# Altium schematic symbol library Converter_DCDC.SchLib: 947 symbols (part 8 of 12)
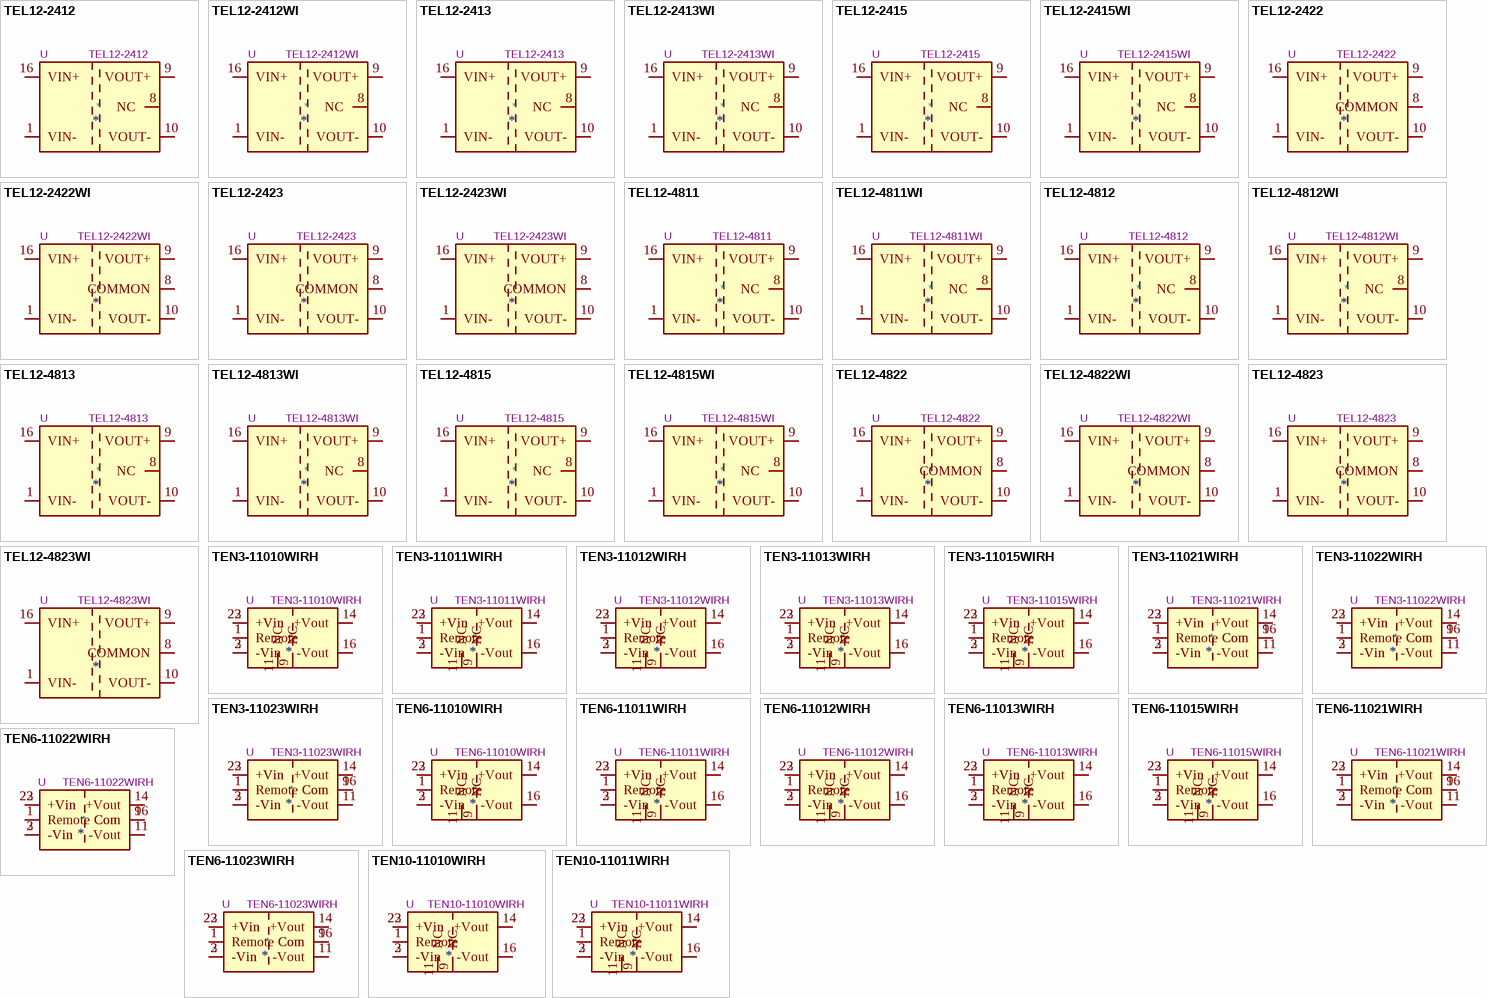
[diagram p30: symbols TEL12-2412 to TEN10-11011WIRH]

## TEL12-2423
designator *  value TEL12-2423  Reference: U
0.4A Isolated DC/DC Converter Module, fixed ±15V Output Voltage, 18-36V Input Voltage, 12W; ki_keywords: Traco isolated DC/DC Converter module; ki_fp_filters: *TRACO*TEL12*xxxx*; Footprint: Converter_DCDC:Converter_DCDC_TRACO_TEL12-xxxx_THT; Datasheet: https://www.tracopower.com/sites/default/files/products/datasheets/tel12_datasheet.pdf; Description_: 0.4A Isolated DC/DC Converter Module, fixed ±15V Output Voltage, 18-36V Input Voltage, 12W
pins: 1 VIN-, 8 COMMON, 9 VOUT+, 10 VOUT-, 16 VIN+

## TEL12-2423WI
designator *  value TEL12-2423WI  Reference: U
0.4A Isolated DC/DC Converter Module, fixed ±15V Output Voltage, 9-36V Input Voltage, 12W; ki_keywords: Traco isolated DC/DC Converter module; ki_fp_filters: *TRACO*TEL12*xxxx*; Footprint: Converter_DCDC:Converter_DCDC_TRACO_TEL12-xxxx_THT; Datasheet: https://www.tracopower.com/sites/default/files/products/datasheets/tel12wi_datasheet.pdf; Description_: 0.4A Isolated DC/DC Converter Module, fixed ±15V Output Voltage, 9-36V Input Voltage, 12W
pins: 1 VIN-, 8 COMMON, 9 VOUT+, 10 VOUT-, 16 VIN+

## TEL12-4811
designator *  value TEL12-4811  Reference: U
2.4A Isolated DC/DC Converter Module, fixed 5.1V Output Voltage, 36-75V Input Voltage, 12W; ki_keywords: Traco isolated DC/DC Converter module; ki_fp_filters: *TRACO*TEL12*xxxx*; Footprint: Converter_DCDC:Converter_DCDC_TRACO_TEL12-xxxx_THT; Datasheet: https://www.tracopower.com/sites/default/files/products/datasheets/tel12_datasheet.pdf; Description_: 2.4A Isolated DC/DC Converter Module, fixed 5.1V Output Voltage, 36-75V Input Voltage, 12W
pins: 1 VIN-, 8 NC, 9 VOUT+, 10 VOUT-, 16 VIN+

## TEL12-4811WI
designator *  value TEL12-4811WI  Reference: U
2.4A Isolated DC/DC Converter Module, fixed 5.1V Output Voltage, 18-75V Input Voltage, 12W; ki_keywords: Traco isolated DC/DC Converter module; ki_fp_filters: *TRACO*TEL12*xxxx*; Footprint: Converter_DCDC:Converter_DCDC_TRACO_TEL12-xxxx_THT; Datasheet: https://www.tracopower.com/sites/default/files/products/datasheets/tel12wi_datasheet.pdf; Description_: 2.4A Isolated DC/DC Converter Module, fixed 5.1V Output Voltage, 18-75V Input Voltage, 12W
pins: 1 VIN-, 8 NC, 9 VOUT+, 10 VOUT-, 16 VIN+

## TEL12-4812
designator *  value TEL12-4812  Reference: U
1A Isolated DC/DC Converter Module, fixed 12V Output Voltage, 36-75V Input Voltage, 12W; ki_keywords: Traco isolated DC/DC Converter module; ki_fp_filters: *TRACO*TEL12*xxxx*; Footprint: Converter_DCDC:Converter_DCDC_TRACO_TEL12-xxxx_THT; Datasheet: https://www.tracopower.com/sites/default/files/products/datasheets/tel12_datasheet.pdf; Description_: 1A Isolated DC/DC Converter Module, fixed 12V Output Voltage, 36-75V Input Voltage, 12W
pins: 1 VIN-, 8 NC, 9 VOUT+, 10 VOUT-, 16 VIN+

## TEL12-4812WI
designator *  value TEL12-4812WI  Reference: U
1A Isolated DC/DC Converter Module, fixed 12V Output Voltage, 18-75V Input Voltage, 12W; ki_keywords: Traco isolated DC/DC Converter module; ki_fp_filters: *TRACO*TEL12*xxxx*; Footprint: Converter_DCDC:Converter_DCDC_TRACO_TEL12-xxxx_THT; Datasheet: https://www.tracopower.com/sites/default/files/products/datasheets/tel12wi_datasheet.pdf; Description_: 1A Isolated DC/DC Converter Module, fixed 12V Output Voltage, 18-75V Input Voltage, 12W
pins: 1 VIN-, 8 NC, 9 VOUT+, 10 VOUT-, 16 VIN+

## TEL12-4813
designator *  value TEL12-4813  Reference: U
0.8A Isolated DC/DC Converter Module, fixed 15V Output Voltage, 36-75V Input Voltage, 12W; ki_keywords: Traco isolated DC/DC Converter module; ki_fp_filters: *TRACO*TEL12*xxxx*; Footprint: Converter_DCDC:Converter_DCDC_TRACO_TEL12-xxxx_THT; Datasheet: https://www.tracopower.com/sites/default/files/products/datasheets/tel12_datasheet.pdf; Description_: 0.8A Isolated DC/DC Converter Module, fixed 15V Output Voltage, 36-75V Input Voltage, 12W
pins: 1 VIN-, 8 NC, 9 VOUT+, 10 VOUT-, 16 VIN+

## TEL12-4813WI
designator *  value TEL12-4813WI  Reference: U
0.8A Isolated DC/DC Converter Module, fixed 15V Output Voltage, 18-75V Input Voltage, 12W; ki_keywords: Traco isolated DC/DC Converter module; ki_fp_filters: *TRACO*TEL12*xxxx*; Footprint: Converter_DCDC:Converter_DCDC_TRACO_TEL12-xxxx_THT; Datasheet: https://www.tracopower.com/sites/default/files/products/datasheets/tel12wi_datasheet.pdf; Description_: 0.8A Isolated DC/DC Converter Module, fixed 15V Output Voltage, 18-75V Input Voltage, 12W
pins: 1 VIN-, 8 NC, 9 VOUT+, 10 VOUT-, 16 VIN+

## TEL12-4815
designator *  value TEL12-4815  Reference: U
0.5A Isolated DC/DC Converter Module, fixed 24V Output Voltage, 36-75V Input Voltage, 12W; ki_keywords: Traco isolated DC/DC Converter module; ki_fp_filters: *TRACO*TEL12*xxxx*; Footprint: Converter_DCDC:Converter_DCDC_TRACO_TEL12-xxxx_THT; Datasheet: https://www.tracopower.com/sites/default/files/products/datasheets/tel12_datasheet.pdf; Description_: 0.5A Isolated DC/DC Converter Module, fixed 24V Output Voltage, 36-75V Input Voltage, 12W
pins: 1 VIN-, 8 NC, 9 VOUT+, 10 VOUT-, 16 VIN+

## TEL12-4815WI
designator *  value TEL12-4815WI  Reference: U
0.5A Isolated DC/DC Converter Module, fixed 24V Output Voltage, 18-75V Input Voltage, 12W; ki_keywords: Traco isolated DC/DC Converter module; ki_fp_filters: *TRACO*TEL12*xxxx*; Footprint: Converter_DCDC:Converter_DCDC_TRACO_TEL12-xxxx_THT; Datasheet: https://www.tracopower.com/sites/default/files/products/datasheets/tel12wi_datasheet.pdf; Description_: 0.5A Isolated DC/DC Converter Module, fixed 24V Output Voltage, 18-75V Input Voltage, 12W
pins: 1 VIN-, 8 NC, 9 VOUT+, 10 VOUT-, 16 VIN+

## TEL12-4822
designator *  value TEL12-4822  Reference: U
0.5A Isolated DC/DC Converter Module, fixed ±12V Output Voltage, 36-75V Input Voltage, 12W; ki_keywords: Traco isolated DC/DC Converter module; ki_fp_filters: *TRACO*TEL12*xxxx*; Footprint: Converter_DCDC:Converter_DCDC_TRACO_TEL12-xxxx_THT; Datasheet: https://www.tracopower.com/sites/default/files/products/datasheets/tel12_datasheet.pdf; Description_: 0.5A Isolated DC/DC Converter Module, fixed ±12V Output Voltage, 36-75V Input Voltage, 12W
pins: 1 VIN-, 8 COMMON, 9 VOUT+, 10 VOUT-, 16 VIN+

## TEL12-4822WI
designator *  value TEL12-4822WI  Reference: U
0.5A Isolated DC/DC Converter Module, fixed ±12V Output Voltage, 18-75V Input Voltage, 12W; ki_keywords: Traco isolated DC/DC Converter module; ki_fp_filters: *TRACO*TEL12*xxxx*; Footprint: Converter_DCDC:Converter_DCDC_TRACO_TEL12-xxxx_THT; Datasheet: https://www.tracopower.com/sites/default/files/products/datasheets/tel12wi_datasheet.pdf; Description_: 0.5A Isolated DC/DC Converter Module, fixed ±12V Output Voltage, 18-75V Input Voltage, 12W
pins: 1 VIN-, 8 COMMON, 9 VOUT+, 10 VOUT-, 16 VIN+

## TEL12-4823
designator *  value TEL12-4823  Reference: U
0.4A Isolated DC/DC Converter Module, fixed ±15V Output Voltage, 36-75V Input Voltage, 12W; ki_keywords: Traco isolated DC/DC Converter module; ki_fp_filters: *TRACO*TEL12*xxxx*; Footprint: Converter_DCDC:Converter_DCDC_TRACO_TEL12-xxxx_THT; Datasheet: https://www.tracopower.com/sites/default/files/products/datasheets/tel12_datasheet.pdf; Description_: 0.4A Isolated DC/DC Converter Module, fixed ±15V Output Voltage, 36-75V Input Voltage, 12W
pins: 1 VIN-, 8 COMMON, 9 VOUT+, 10 VOUT-, 16 VIN+

## TEL12-4823WI
designator *  value TEL12-4823WI  Reference: U
0.4A Isolated DC/DC Converter Module, fixed ±15V Output Voltage, 18-75V Input Voltage, 12W; ki_keywords: Traco isolated DC/DC Converter module; ki_fp_filters: *TRACO*TEL12*xxxx*; Footprint: Converter_DCDC:Converter_DCDC_TRACO_TEL12-xxxx_THT; Datasheet: https://www.tracopower.com/sites/default/files/products/datasheets/tel12wi_datasheet.pdf; Description_: 0.4A Isolated DC/DC Converter Module, fixed ±15V Output Voltage, 18-75V Input Voltage, 12W
pins: 1 VIN-, 8 COMMON, 9 VOUT+, 10 VOUT-, 16 VIN+

## TEN3-11010WIRH
designator *  value TEN3-11010WIRH  Reference: U
3W DC/DC railway converter regulated, 36-160V input, 3.3V fixed output voltage, 1A output, 3.0kVAC isolation, DIP-24; ki_keywords: Traco isolated single; ki_fp_filters: Converter*DCDC*TRACO*TEN10*110xxWIRH*THT*; Footprint: Converter_DCDC:Converter_DCDC_TRACO_TEN10-110xxWIRH_THT; Datasheet: https://www.tracopower.com/products/ten3wirh.pdf; Description_: 3W DC/DC railway converter regulated, 36-160V input, 3.3V fixed output voltage, 1A output, 3.0kVAC isolation, DIP-24
pins: 1 Remote, 2 -Vin, 3 -Vin, 9 NC, 11 NC, 14 +Vout, 16 -Vout, 22 +Vin, 23 +Vin

## TEN3-11011WIRH
designator *  value TEN3-11011WIRH  Reference: U
3W DC/DC railway converter regulated, 36-160V input, 5V fixed output voltage, 600mA output, 3.0kVAC isolation, DIP-24; ki_keywords: Traco isolated single; ki_fp_filters: Converter*DCDC*TRACO*TEN10*110xxWIRH*THT*; Footprint: Converter_DCDC:Converter_DCDC_TRACO_TEN10-110xxWIRH_THT; Datasheet: https://www.tracopower.com/products/ten3wirh.pdf; Description_: 3W DC/DC railway converter regulated, 36-160V input, 5V fixed output voltage, 600mA output, 3.0kVAC isolation, DIP-24
pins: 1 Remote, 2 -Vin, 3 -Vin, 9 NC, 11 NC, 14 +Vout, 16 -Vout, 22 +Vin, 23 +Vin

## TEN3-11012WIRH
designator *  value TEN3-11012WIRH  Reference: U
3W DC/DC railway converter regulated, 36-160V input, 12V fixed output voltage, 250mA output, 3.0kVAC isolation, DIP-24; ki_keywords: Traco isolated single; ki_fp_filters: Converter*DCDC*TRACO*TEN10*110xxWIRH*THT*; Footprint: Converter_DCDC:Converter_DCDC_TRACO_TEN10-110xxWIRH_THT; Datasheet: https://www.tracopower.com/products/ten3wirh.pdf; Description_: 3W DC/DC railway converter regulated, 36-160V input, 12V fixed output voltage, 250mA output, 3.0kVAC isolation, DIP-24
pins: 1 Remote, 2 -Vin, 3 -Vin, 9 NC, 11 NC, 14 +Vout, 16 -Vout, 22 +Vin, 23 +Vin

## TEN3-11013WIRH
designator *  value TEN3-11013WIRH  Reference: U
3W DC/DC railway converter regulated, 36-160V input, 15V fixed output voltage, 200mA output, 3.0kVAC isolation, DIP-24; ki_keywords: Traco isolated single; ki_fp_filters: Converter*DCDC*TRACO*TEN10*110xxWIRH*THT*; Footprint: Converter_DCDC:Converter_DCDC_TRACO_TEN10-110xxWIRH_THT; Datasheet: https://www.tracopower.com/products/ten3wirh.pdf; Description_: 3W DC/DC railway converter regulated, 36-160V input, 15V fixed output voltage, 200mA output, 3.0kVAC isolation, DIP-24
pins: 1 Remote, 2 -Vin, 3 -Vin, 9 NC, 11 NC, 14 +Vout, 16 -Vout, 22 +Vin, 23 +Vin

## TEN3-11015WIRH
designator *  value TEN3-11015WIRH  Reference: U
3W DC/DC railway converter regulated, 36-160V input, 24V fixed output voltage, 125mA output, 3.0kVAC isolation, DIP-24; ki_keywords: Traco isolated single; ki_fp_filters: Converter*DCDC*TRACO*TEN10*110xxWIRH*THT*; Footprint: Converter_DCDC:Converter_DCDC_TRACO_TEN10-110xxWIRH_THT; Datasheet: https://www.tracopower.com/products/ten3wirh.pdf; Description_: 3W DC/DC railway converter regulated, 36-160V input, 24V fixed output voltage, 125mA output, 3.0kVAC isolation, DIP-24
pins: 1 Remote, 2 -Vin, 3 -Vin, 9 NC, 11 NC, 14 +Vout, 16 -Vout, 22 +Vin, 23 +Vin

## TEN3-11021WIRH
designator *  value TEN3-11021WIRH  Reference: U
3W DC/DC railway converter regulated, 36-160V input, ±5V fixed output voltage, 300mA each output, 3.0kVAC isolation, DIP-24; ki_keywords: Traco isolated dual; ki_fp_filters: Converter*DCDC*TRACO*TEN10*110xxWIRH*THT*; Footprint: Converter_DCDC:Converter_DCDC_TRACO_TEN10-110xxWIRH_THT; Datasheet: https://www.tracopower.com/products/ten3wirh.pdf; Description_: 3W DC/DC railway converter regulated, 36-160V input, ±5V fixed output voltage, 300mA each output, 3.0kVAC isolation, DIP-24
pins: 1 Remote, 2 -Vin, 3 -Vin, 9 Com, 11 -Vout, 14 +Vout, 16 Com, 22 +Vin, 23 +Vin

## TEN3-11022WIRH
designator *  value TEN3-11022WIRH  Reference: U
3W DC/DC railway converter regulated, 36-160V input, ±12V fixed output voltage, 125mA each output, 3.0kVAC isolation, DIP-24; ki_keywords: Traco isolated dual; ki_fp_filters: Converter*DCDC*TRACO*TEN10*110xxWIRH*THT*; Footprint: Converter_DCDC:Converter_DCDC_TRACO_TEN10-110xxWIRH_THT; Datasheet: https://www.tracopower.com/products/ten3wirh.pdf; Description_: 3W DC/DC railway converter regulated, 36-160V input, ±12V fixed output voltage, 125mA each output, 3.0kVAC isolation, DIP-24
pins: 1 Remote, 2 -Vin, 3 -Vin, 9 Com, 11 -Vout, 14 +Vout, 16 Com, 22 +Vin, 23 +Vin

## TEN3-11023WIRH
designator *  value TEN3-11023WIRH  Reference: U
3W DC/DC railway converter regulated, 36-160V input, ±15V fixed output voltage, 100mA each output, 3.0kVAC isolation, DIP-24; ki_keywords: Traco isolated dual; ki_fp_filters: Converter*DCDC*TRACO*TEN10*110xxWIRH*THT*; Footprint: Converter_DCDC:Converter_DCDC_TRACO_TEN10-110xxWIRH_THT; Datasheet: https://www.tracopower.com/products/ten3wirh.pdf; Description_: 3W DC/DC railway converter regulated, 36-160V input, ±15V fixed output voltage, 100mA each output, 3.0kVAC isolation, DIP-24
pins: 1 Remote, 2 -Vin, 3 -Vin, 9 Com, 11 -Vout, 14 +Vout, 16 Com, 22 +Vin, 23 +Vin

## TEN6-11010WIRH
designator *  value TEN6-11010WIRH  Reference: U
6W DC/DC railway converter regulated, 36-160V input, 3.3V fixed output voltage, 1.8A output, 3.0kVAC isolation, DIP-24; ki_keywords: Traco isolated single; ki_fp_filters: Converter*DCDC*TRACO*TEN10*110xxWIRH*THT*; Footprint: Converter_DCDC:Converter_DCDC_TRACO_TEN10-110xxWIRH_THT; Datasheet: https://www.tracopower.com/products/ten6wirh.pdf; Description_: 6W DC/DC railway converter regulated, 36-160V input, 3.3V fixed output voltage, 1.8A output, 3.0kVAC isolation, DIP-24
pins: 1 Remote, 2 -Vin, 3 -Vin, 9 NC, 11 NC, 14 +Vout, 16 -Vout, 22 +Vin, 23 +Vin

## TEN6-11011WIRH
designator *  value TEN6-11011WIRH  Reference: U
6W DC/DC railway converter regulated, 36-160V input, 5V fixed output voltage, 1.2A output, 3.0kVAC isolation, DIP-24; ki_keywords: Traco isolated single; ki_fp_filters: Converter*DCDC*TRACO*TEN10*110xxWIRH*THT*; Footprint: Converter_DCDC:Converter_DCDC_TRACO_TEN10-110xxWIRH_THT; Datasheet: https://www.tracopower.com/products/ten6wirh.pdf; Description_: 6W DC/DC railway converter regulated, 36-160V input, 5V fixed output voltage, 1.2A output, 3.0kVAC isolation, DIP-24
pins: 1 Remote, 2 -Vin, 3 -Vin, 9 NC, 11 NC, 14 +Vout, 16 -Vout, 22 +Vin, 23 +Vin

## TEN6-11012WIRH
designator *  value TEN6-11012WIRH  Reference: U
6W DC/DC railway converter regulated, 36-160V input, 12V fixed output voltage, 500mA output, 3.0kVAC isolation, DIP-24; ki_keywords: Traco isolated single; ki_fp_filters: Converter*DCDC*TRACO*TEN10*110xxWIRH*THT*; Footprint: Converter_DCDC:Converter_DCDC_TRACO_TEN10-110xxWIRH_THT; Datasheet: https://www.tracopower.com/products/ten6wirh.pdf; Description_: 6W DC/DC railway converter regulated, 36-160V input, 12V fixed output voltage, 500mA output, 3.0kVAC isolation, DIP-24
pins: 1 Remote, 2 -Vin, 3 -Vin, 9 NC, 11 NC, 14 +Vout, 16 -Vout, 22 +Vin, 23 +Vin

## TEN6-11013WIRH
designator *  value TEN6-11013WIRH  Reference: U
6W DC/DC railway converter regulated, 36-160V input, 15V fixed output voltage, 400mA output, 3.0kVAC isolation, DIP-24; ki_keywords: Traco isolated single; ki_fp_filters: Converter*DCDC*TRACO*TEN10*110xxWIRH*THT*; Footprint: Converter_DCDC:Converter_DCDC_TRACO_TEN10-110xxWIRH_THT; Datasheet: https://www.tracopower.com/products/ten6wirh.pdf; Description_: 6W DC/DC railway converter regulated, 36-160V input, 15V fixed output voltage, 400mA output, 3.0kVAC isolation, DIP-24
pins: 1 Remote, 2 -Vin, 3 -Vin, 9 NC, 11 NC, 14 +Vout, 16 -Vout, 22 +Vin, 23 +Vin

## TEN6-11015WIRH
designator *  value TEN6-11015WIRH  Reference: U
6W DC/DC railway converter regulated, 36-160V input, 24V fixed output voltage, 250mA output, 3.0kVAC isolation, DIP-24; ki_keywords: Traco isolated single; ki_fp_filters: Converter*DCDC*TRACO*TEN10*110xxWIRH*THT*; Footprint: Converter_DCDC:Converter_DCDC_TRACO_TEN10-110xxWIRH_THT; Datasheet: https://www.tracopower.com/products/ten6wirh.pdf; Description_: 6W DC/DC railway converter regulated, 36-160V input, 24V fixed output voltage, 250mA output, 3.0kVAC isolation, DIP-24
pins: 1 Remote, 2 -Vin, 3 -Vin, 9 NC, 11 NC, 14 +Vout, 16 -Vout, 22 +Vin, 23 +Vin

## TEN6-11021WIRH
designator *  value TEN6-11021WIRH  Reference: U
6W DC/DC railway converter regulated, 36-160V input, ±5V fixed output voltage, 600mA each output, 3.0kVAC isolation, DIP-24; ki_keywords: Traco isolated dual; ki_fp_filters: Converter*DCDC*TRACO*TEN10*110xxWIRH*THT*; Footprint: Converter_DCDC:Converter_DCDC_TRACO_TEN10-110xxWIRH_THT; Datasheet: https://www.tracopower.com/products/ten6wirh.pdf; Description_: 6W DC/DC railway converter regulated, 36-160V input, ±5V fixed output voltage, 600mA each output, 3.0kVAC isolation, DIP-24
pins: 1 Remote, 2 -Vin, 3 -Vin, 9 Com, 11 -Vout, 14 +Vout, 16 Com, 22 +Vin, 23 +Vin

## TEN6-11022WIRH
designator *  value TEN6-11022WIRH  Reference: U
6W DC/DC railway converter regulated, 36-160V input, ±12V fixed output voltage, 250mA each output, 3.0kVAC isolation, DIP-24; ki_keywords: Traco isolated dual; ki_fp_filters: Converter*DCDC*TRACO*TEN10*110xxWIRH*THT*; Footprint: Converter_DCDC:Converter_DCDC_TRACO_TEN10-110xxWIRH_THT; Datasheet: https://www.tracopower.com/products/ten6wirh.pdf; Description_: 6W DC/DC railway converter regulated, 36-160V input, ±12V fixed output voltage, 250mA each output, 3.0kVAC isolation, DIP-24
pins: 1 Remote, 2 -Vin, 3 -Vin, 9 Com, 11 -Vout, 14 +Vout, 16 Com, 22 +Vin, 23 +Vin

## TEN6-11023WIRH
designator *  value TEN6-11023WIRH  Reference: U
6W DC/DC railway converter regulated, 36-160V input, ±15V fixed output voltage, 200mA each output, 3.0kVAC isolation, DIP-24; ki_keywords: Traco isolated dual; ki_fp_filters: Converter*DCDC*TRACO*TEN10*110xxWIRH*THT*; Footprint: Converter_DCDC:Converter_DCDC_TRACO_TEN10-110xxWIRH_THT; Datasheet: https://www.tracopower.com/products/ten6wirh.pdf; Description_: 6W DC/DC railway converter regulated, 36-160V input, ±15V fixed output voltage, 200mA each output, 3.0kVAC isolation, DIP-24
pins: 1 Remote, 2 -Vin, 3 -Vin, 9 Com, 11 -Vout, 14 +Vout, 16 Com, 22 +Vin, 23 +Vin

## TEN10-11010WIRH
designator *  value TEN10-11010WIRH  Reference: U
10W DC/DC railway converter regulated, 36-160V input, 3.3V fixed output voltage, 2.5A output, 3.0kVAC isolation, DIP-24; ki_keywords: Traco isolated single; ki_fp_filters: Converter*DCDC*TRACO*TEN10*110xxWIRH*THT*; Footprint: Converter_DCDC:Converter_DCDC_TRACO_TEN10-110xxWIRH_THT; Datasheet: https://www.tracopower.com/products/ten10wirh.pdf; Description_: 10W DC/DC railway converter regulated, 36-160V input, 3.3V fixed output voltage, 2.5A output, 3.0kVAC isolation, DIP-24
pins: 1 Remote, 2 -Vin, 3 -Vin, 9 NC, 11 NC, 14 +Vout, 16 -Vout, 22 +Vin, 23 +Vin

## TEN10-11011WIRH
designator *  value TEN10-11011WIRH  Reference: U
10W DC/DC railway converter regulated, 36-160V input, 5.1V fixed output voltage, 2A output, 3.0kVAC isolation, DIP-24; ki_keywords: Traco isolated isolation dc-dc DC/DC converter single; ki_fp_filters: Converter*DCDC*TRACO*TEN10*110xxWIRH*THT*; Footprint: Converter_DCDC:Converter_DCDC_TRACO_TEN10-110xxWIRH_THT; Datasheet: https://www.tracopower.com/products/ten10wirh.pdf; Description_: 10W DC/DC railway converter regulated, 36-160V input, 5.1V fixed output voltage, 2A output, 3.0kVAC isolation, DIP-24
pins: 1 Remote, 2 -Vin, 3 -Vin, 9 NC, 11 NC, 14 +Vout, 16 -Vout, 22 +Vin, 23 +Vin

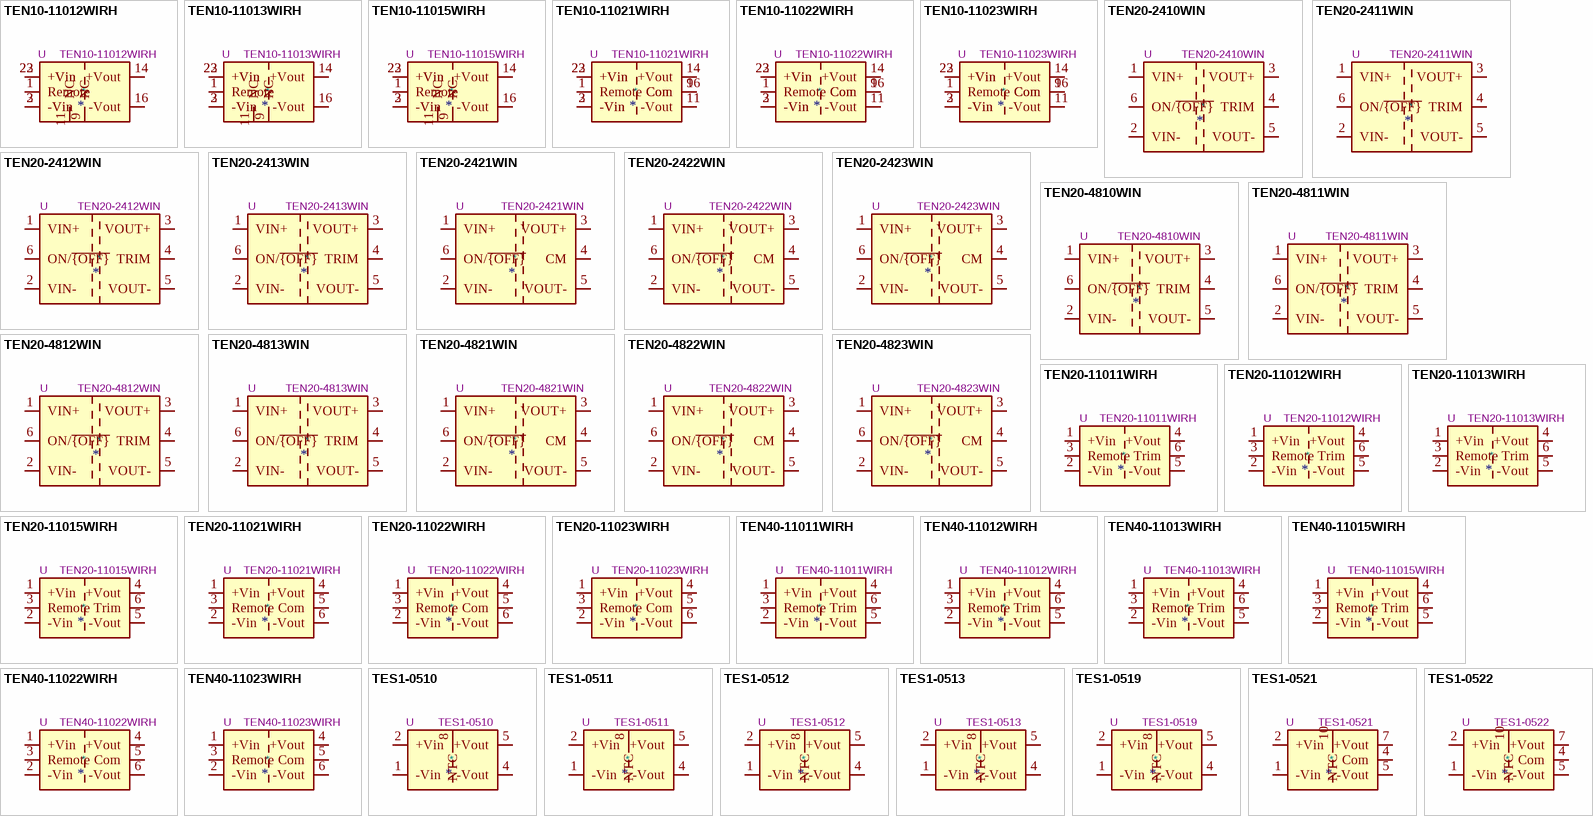
[diagram p16: symbols TEN10-11012WIRH to TES1-0522]

## TEN10-11012WIRH
designator *  value TEN10-11012WIRH  Reference: U
10W DC/DC railway converter regulated, 36-160V input, 12V fixed output voltage, 830mA output, 3.0kVAC isolation, DIP-24; ki_keywords: Traco isolated isolation dc-dc DC/DC converter single; ki_fp_filters: Converter*DCDC*TRACO*TEN10*110xxWIRH*THT*; Footprint: Converter_DCDC:Converter_DCDC_TRACO_TEN10-110xxWIRH_THT; Datasheet: https://www.tracopower.com/products/ten10wirh.pdf; Description_: 10W DC/DC railway converter regulated, 36-160V input, 12V fixed output voltage, 830mA output, 3.0kVAC isolation, DIP-24
pins: 1 Remote, 2 -Vin, 3 -Vin, 9 NC, 11 NC, 14 +Vout, 16 -Vout, 22 +Vin, 23 +Vin

## TEN10-11013WIRH
designator *  value TEN10-11013WIRH  Reference: U
10W DC/DC railway converter regulated, 36-160V input, 15V fixed output voltage, 670mA output, 3.0kVAC isolation, DIP-24; ki_keywords: Traco isolated isolation dc-dc DC/DC converter single; ki_fp_filters: Converter*DCDC*TRACO*TEN10*110xxWIRH*THT*; Footprint: Converter_DCDC:Converter_DCDC_TRACO_TEN10-110xxWIRH_THT; Datasheet: https://www.tracopower.com/products/ten10wirh.pdf; Description_: 10W DC/DC railway converter regulated, 36-160V input, 15V fixed output voltage, 670mA output, 3.0kVAC isolation, DIP-24
pins: 1 Remote, 2 -Vin, 3 -Vin, 9 NC, 11 NC, 14 +Vout, 16 -Vout, 22 +Vin, 23 +Vin

## TEN10-11015WIRH
designator *  value TEN10-11015WIRH  Reference: U
10W DC/DC railway converter regulated, 36-160V input, 24V fixed output voltage, 416mA output, 3.0kVAC isolation, DIP-24; ki_keywords: Traco isolated isolation dc-dc DC/DC converter single; ki_fp_filters: Converter*DCDC*TRACO*TEN10*110xxWIRH*THT*; Footprint: Converter_DCDC:Converter_DCDC_TRACO_TEN10-110xxWIRH_THT; Datasheet: https://www.tracopower.com/products/ten10wirh.pdf; Description_: 10W DC/DC railway converter regulated, 36-160V input, 24V fixed output voltage, 416mA output, 3.0kVAC isolation, DIP-24
pins: 1 Remote, 2 -Vin, 3 -Vin, 9 NC, 11 NC, 14 +Vout, 16 -Vout, 22 +Vin, 23 +Vin

## TEN10-11021WIRH
designator *  value TEN10-11021WIRH  Reference: U
10W DC/DC railway converter regulated, 36-160V input, ±5V fixed output voltage, 1A each output, 3.0kVAC isolation, DIP-24; ki_keywords: Traco isolated dual; ki_fp_filters: Converter*DCDC*TRACO*TEN10*110xxWIRH*THT*; Footprint: Converter_DCDC:Converter_DCDC_TRACO_TEN10-110xxWIRH_THT; Datasheet: https://www.tracopower.com/products/ten10wirh.pdf; Description_: 10W DC/DC railway converter regulated, 36-160V input, ±5V fixed output voltage, 1A each output, 3.0kVAC isolation, DIP-24
pins: 1 Remote, 2 -Vin, 3 -Vin, 9 Com, 11 -Vout, 14 +Vout, 16 Com, 22 +Vin, 23 +Vin

## TEN10-11022WIRH
designator *  value TEN10-11022WIRH  Reference: U
10W DC/DC railway converter regulated, 36-160V input, ±12V fixed output voltage, 416mA each output, 3.0kVAC isolation, DIP-24; ki_keywords: Traco isolated isolation dc-dc DC/DC converter dual; ki_fp_filters: Converter*DCDC*TRACO*TEN10*110xxWIRH*THT*; Footprint: Converter_DCDC:Converter_DCDC_TRACO_TEN10-110xxWIRH_THT; Datasheet: https://www.tracopower.com/products/ten10wirh.pdf; Description_: 10W DC/DC railway converter regulated, 36-160V input, ±12V fixed output voltage, 416mA each output, 3.0kVAC isolation, DIP-24
pins: 1 Remote, 2 -Vin, 3 -Vin, 9 Com, 11 -Vout, 14 +Vout, 16 Com, 22 +Vin, 23 +Vin

## TEN10-11023WIRH
designator *  value TEN10-11023WIRH  Reference: U
10W DC/DC railway converter regulated, 36-160V input, ±15V fixed output voltage, 333mA each output, 3.0kVAC isolation, DIP-24; ki_keywords: Traco isolated isolation dc-dc DC/DC converter dual; ki_fp_filters: Converter*DCDC*TRACO*TEN10*110xxWIRH*THT*; Footprint: Converter_DCDC:Converter_DCDC_TRACO_TEN10-110xxWIRH_THT; Datasheet: https://www.tracopower.com/products/ten10wirh.pdf; Description_: 10W DC/DC railway converter regulated, 36-160V input, ±15V fixed output voltage, 333mA each output, 3.0kVAC isolation, DIP-24
pins: 1 Remote, 2 -Vin, 3 -Vin, 9 Com, 11 -Vout, 14 +Vout, 16 Com, 22 +Vin, 23 +Vin

## TEN20-2410WIN
designator *  value TEN20-2410WIN  Reference: U
5.5A Isolated DC/DC Converter Module, fixed 3.3V Output Voltage, 9-36V Input Voltage; ki_keywords: Traco isolated DC/DC Converter module; ki_fp_filters: *TRACO*TEN20*xxxx*; Footprint: Converter_DCDC:Converter_DCDC_TRACO_TEN20-xxxx_THT; Datasheet: http://www.tracopower.com/products/ten20win.pdf; Description_: 5.5A Isolated DC/DC Converter Module, fixed 3.3V Output Voltage, 9-36V Input Voltage
pins: 1 VIN+, 2 VIN-, 3 VOUT+, 4 TRIM, 5 VOUT-, 6 ON/~{{OFF}}

## TEN20-2411WIN
designator *  value TEN20-2411WIN  Reference: U
4A Isolated DC/DC Converter Module, fixed 5V Output Voltage, 9-36V Input Voltage; ki_keywords: Traco isolated DC/DC Converter module; ki_fp_filters: *TRACO*TEN20*xxxx*; Footprint: Converter_DCDC:Converter_DCDC_TRACO_TEN20-xxxx_THT; Datasheet: http://www.tracopower.com/products/ten20win.pdf; Description_: 4A Isolated DC/DC Converter Module, fixed 5V Output Voltage, 9-36V Input Voltage
pins: 1 VIN+, 2 VIN-, 3 VOUT+, 4 TRIM, 5 VOUT-, 6 ON/~{{OFF}}

## TEN20-2412WIN
designator *  value TEN20-2412WIN  Reference: U
1.67A Isolated DC/DC Converter Module, fixed 12V Output Voltage, 9-36V Input Voltage; ki_keywords: Traco isolated DC/DC Converter module; ki_fp_filters: *TRACO*TEN20*xxxx*; Footprint: Converter_DCDC:Converter_DCDC_TRACO_TEN20-xxxx_THT; Datasheet: http://www.tracopower.com/products/ten20win.pdf; Description_: 1.67A Isolated DC/DC Converter Module, fixed 12V Output Voltage, 9-36V Input Voltage
pins: 1 VIN+, 2 VIN-, 3 VOUT+, 4 TRIM, 5 VOUT-, 6 ON/~{{OFF}}

## TEN20-2413WIN
designator *  value TEN20-2413WIN  Reference: U
1.33A Isolated DC/DC Converter Module, fixed 15V Output Voltage, 9-36V Input Voltage; ki_keywords: Traco isolated DC/DC Converter module; ki_fp_filters: *TRACO*TEN20*xxxx*; Footprint: Converter_DCDC:Converter_DCDC_TRACO_TEN20-xxxx_THT; Datasheet: http://www.tracopower.com/products/ten20win.pdf; Description_: 1.33A Isolated DC/DC Converter Module, fixed 15V Output Voltage, 9-36V Input Voltage
pins: 1 VIN+, 2 VIN-, 3 VOUT+, 4 TRIM, 5 VOUT-, 6 ON/~{{OFF}}

## TEN20-2421WIN
designator *  value TEN20-2421WIN  Reference: U
2A Isolated DC/DC Dual Supply Converter Module, fixed ±5V Output Voltage, 9-36V Input Voltage; ki_keywords: Traco isolated DC/DC Converter module; ki_fp_filters: *TRACO*TEN20*xxxx*; Footprint: Converter_DCDC:Converter_DCDC_TRACO_TEN20-xxxx_THT; Datasheet: http://www.tracopower.com/products/ten20win.pdf; Description_: 2A Isolated DC/DC Dual Supply Converter Module, fixed ±5V Output Voltage, 9-36V Input Voltage
pins: 1 VIN+, 2 VIN-, 3 VOUT+, 4 CM, 5 VOUT-, 6 ON/~{{OFF}}

## TEN20-2422WIN
designator *  value TEN20-2422WIN  Reference: U
835mA Isolated DC/DC Dual Supply Converter Module, fixed ±12V Output Voltage, 9-36V Input Voltage; ki_keywords: Traco isolated DC/DC Converter module; ki_fp_filters: *TRACO*TEN20*xxxx*; Footprint: Converter_DCDC:Converter_DCDC_TRACO_TEN20-xxxx_THT; Datasheet: http://www.tracopower.com/products/ten20win.pdf; Description_: 835mA Isolated DC/DC Dual Supply Converter Module, fixed ±12V Output Voltage, 9-36V Input Voltage
pins: 1 VIN+, 2 VIN-, 3 VOUT+, 4 CM, 5 VOUT-, 6 ON/~{{OFF}}

## TEN20-2423WIN
designator *  value TEN20-2423WIN  Reference: U
665mA Isolated DC/DC Dual Supply Converter Module, fixed ±15V Output Voltage, 9-36V Input Voltage; ki_keywords: Traco isolated DC/DC Converter module; ki_fp_filters: *TRACO*TEN20*xxxx*; Footprint: Converter_DCDC:Converter_DCDC_TRACO_TEN20-xxxx_THT; Datasheet: http://www.tracopower.com/products/ten20win.pdf; Description_: 665mA Isolated DC/DC Dual Supply Converter Module, fixed ±15V Output Voltage, 9-36V Input Voltage
pins: 1 VIN+, 2 VIN-, 3 VOUT+, 4 CM, 5 VOUT-, 6 ON/~{{OFF}}

## TEN20-4810WIN
designator *  value TEN20-4810WIN  Reference: U
5.5A Isolated DC/DC Converter Module, fixed 3.3V Output Voltage, 18-75V Input Voltage; ki_keywords: Traco isolated DC/DC Converter module; ki_fp_filters: *TRACO*TEN20*xxxx*; Footprint: Converter_DCDC:Converter_DCDC_TRACO_TEN20-xxxx_THT; Datasheet: http://www.tracopower.com/products/ten20win.pdf; Description_: 5.5A Isolated DC/DC Converter Module, fixed 3.3V Output Voltage, 18-75V Input Voltage
pins: 1 VIN+, 2 VIN-, 3 VOUT+, 4 TRIM, 5 VOUT-, 6 ON/~{{OFF}}

## TEN20-4811WIN
designator *  value TEN20-4811WIN  Reference: U
4A Isolated DC/DC Converter Module, fixed 5V Output Voltage, 18-75V Input Voltage; ki_keywords: Traco isolated DC/DC Converter module; ki_fp_filters: *TRACO*TEN20*xxxx*; Footprint: Converter_DCDC:Converter_DCDC_TRACO_TEN20-xxxx_THT; Datasheet: http://www.tracopower.com/products/ten20win.pdf; Description_: 4A Isolated DC/DC Converter Module, fixed 5V Output Voltage, 18-75V Input Voltage
pins: 1 VIN+, 2 VIN-, 3 VOUT+, 4 TRIM, 5 VOUT-, 6 ON/~{{OFF}}

## TEN20-4812WIN
designator *  value TEN20-4812WIN  Reference: U
1.67A Isolated DC/DC Converter Module, fixed 12V Output Voltage, 18-75V Input Voltage; ki_keywords: Traco isolated DC/DC Converter module; ki_fp_filters: *TRACO*TEN20*xxxx*; Footprint: Converter_DCDC:Converter_DCDC_TRACO_TEN20-xxxx_THT; Datasheet: http://www.tracopower.com/products/ten20win.pdf; Description_: 1.67A Isolated DC/DC Converter Module, fixed 12V Output Voltage, 18-75V Input Voltage
pins: 1 VIN+, 2 VIN-, 3 VOUT+, 4 TRIM, 5 VOUT-, 6 ON/~{{OFF}}

## TEN20-4813WIN
designator *  value TEN20-4813WIN  Reference: U
1.33A Isolated DC/DC Converter Module, fixed 15V Output Voltage, 18-75V Input Voltage; ki_keywords: Traco isolated DC/DC Converter module; ki_fp_filters: *TRACO*TEN20*xxxx*; Footprint: Converter_DCDC:Converter_DCDC_TRACO_TEN20-xxxx_THT; Datasheet: http://www.tracopower.com/products/ten20win.pdf; Description_: 1.33A Isolated DC/DC Converter Module, fixed 15V Output Voltage, 18-75V Input Voltage
pins: 1 VIN+, 2 VIN-, 3 VOUT+, 4 TRIM, 5 VOUT-, 6 ON/~{{OFF}}

## TEN20-4821WIN
designator *  value TEN20-4821WIN  Reference: U
2A Isolated DC/DC Dual Supply Converter Module, fixed ±5V Output Voltage, 18-75V Input Voltage; ki_keywords: Traco isolated DC/DC Converter module; ki_fp_filters: *TRACO*TEN20*xxxx*; Footprint: Converter_DCDC:Converter_DCDC_TRACO_TEN20-xxxx_THT; Datasheet: http://www.tracopower.com/products/ten20win.pdf; Description_: 2A Isolated DC/DC Dual Supply Converter Module, fixed ±5V Output Voltage, 18-75V Input Voltage
pins: 1 VIN+, 2 VIN-, 3 VOUT+, 4 CM, 5 VOUT-, 6 ON/~{{OFF}}

## TEN20-4822WIN
designator *  value TEN20-4822WIN  Reference: U
835mA Isolated DC/DC Dual Supply Converter Module, fixed ±12V Output Voltage, 18-75V Input Voltage; ki_keywords: Traco isolated DC/DC Converter module; ki_fp_filters: *TRACO*TEN20*xxxx*; Footprint: Converter_DCDC:Converter_DCDC_TRACO_TEN20-xxxx_THT; Datasheet: http://www.tracopower.com/products/ten20win.pdf; Description_: 835mA Isolated DC/DC Dual Supply Converter Module, fixed ±12V Output Voltage, 18-75V Input Voltage
pins: 1 VIN+, 2 VIN-, 3 VOUT+, 4 CM, 5 VOUT-, 6 ON/~{{OFF}}

## TEN20-4823WIN
designator *  value TEN20-4823WIN  Reference: U
665mA Isolated DC/DC Dual Supply Converter Module, fixed ±15V Output Voltage, 18-75V Input Voltage; ki_keywords: Traco isolated DC/DC Converter module; ki_fp_filters: *TRACO*TEN20*xxxx*; Footprint: Converter_DCDC:Converter_DCDC_TRACO_TEN20-xxxx_THT; Datasheet: http://www.tracopower.com/products/ten20win.pdf; Description_: 665mA Isolated DC/DC Dual Supply Converter Module, fixed ±15V Output Voltage, 18-75V Input Voltage
pins: 1 VIN+, 2 VIN-, 3 VOUT+, 4 CM, 5 VOUT-, 6 ON/~{{OFF}}

## TEN20-11011WIRH
designator *  value TEN20-11011WIRH  Reference: U
20W DC/DC railway converter regulated, 36-160V input, 5.1V fixed output voltage, 4A output, 3.0kVAC isolation, 1”x1.6”; ki_keywords: Traco isolated dc-dc 50155 50121-3-2 62368-1 single; ki_fp_filters: Converter*DCDC*TRACO*TEN20*110xxWIRH*THT*; Footprint: Converter_DCDC:Converter_DCDC_TRACO_TEN20-110xxWIRH_THT; Datasheet: https://www.tracopower.com/products/ten20wirh.pdf; Description_: 20W DC/DC railway converter regulated, 36-160V input, 5.1V fixed output voltage, 4A output, 3.0kVAC isolation, 1”x1.6”
pins: 1 +Vin, 2 -Vin, 3 Remote, 4 +Vout, 5 -Vout, 6 Trim

## TEN20-11012WIRH
designator *  value TEN20-11012WIRH  Reference: U
20W DC/DC railway converter regulated, 36-160V input, 12V fixed output voltage, 1.67A output, 3.0kVAC isolation, 1”x1.6”; ki_keywords: Traco isolated dc-dc 50155 50121-3-2 62368-1 single; ki_fp_filters: Converter*DCDC*TRACO*TEN20*110xxWIRH*THT*; Footprint: Converter_DCDC:Converter_DCDC_TRACO_TEN20-110xxWIRH_THT; Datasheet: https://www.tracopower.com/products/ten20wirh.pdf; Description_: 20W DC/DC railway converter regulated, 36-160V input, 12V fixed output voltage, 1.67A output, 3.0kVAC isolation, 1”x1.6”
pins: 1 +Vin, 2 -Vin, 3 Remote, 4 +Vout, 5 -Vout, 6 Trim

## TEN20-11013WIRH
designator *  value TEN20-11013WIRH  Reference: U
20W DC/DC railway converter regulated, 36-160V input, 15V fixed output voltage, 1.33A output, 3.0kVAC isolation, 1”x1.6”; ki_keywords: Traco isolated dc-dc 50155 50121-3-2 62368-1 single; ki_fp_filters: Converter*DCDC*TRACO*TEN20*110xxWIRH*THT*; Footprint: Converter_DCDC:Converter_DCDC_TRACO_TEN20-110xxWIRH_THT; Datasheet: https://www.tracopower.com/products/ten20wirh.pdf; Description_: 20W DC/DC railway converter regulated, 36-160V input, 15V fixed output voltage, 1.33A output, 3.0kVAC isolation, 1”x1.6”
pins: 1 +Vin, 2 -Vin, 3 Remote, 4 +Vout, 5 -Vout, 6 Trim

## TEN20-11015WIRH
designator *  value TEN20-11015WIRH  Reference: U
20W DC/DC railway converter regulated, 36-160V input, 24V fixed output voltage, 833mA output, 3.0kVAC isolation, 1”x1.6”; ki_keywords: Traco isolated dc-dc 50155 50121-3-2 62368-1 single; ki_fp_filters: Converter*DCDC*TRACO*TEN20*110xxWIRH*THT*; Footprint: Converter_DCDC:Converter_DCDC_TRACO_TEN20-110xxWIRH_THT; Datasheet: https://www.tracopower.com/products/ten20wirh.pdf; Description_: 20W DC/DC railway converter regulated, 36-160V input, 24V fixed output voltage, 833mA output, 3.0kVAC isolation, 1”x1.6”
pins: 1 +Vin, 2 -Vin, 3 Remote, 4 +Vout, 5 -Vout, 6 Trim

## TEN20-11021WIRH
designator *  value TEN20-11021WIRH  Reference: U
20W DC/DC railway converter regulated, 36-160V input, ±5V fixed output voltage, 2A each output, 3.0kVAC isolation, 1”x1.6”; ki_keywords: Traco isolated dc-dc 50155 50121-3-2 62368-1 dual; ki_fp_filters: Converter*DCDC*TRACO*TEN20*110xxWIRH*THT*; Footprint: Converter_DCDC:Converter_DCDC_TRACO_TEN20-110xxWIRH_THT; Datasheet: https://www.tracopower.com/products/ten20wirh.pdf; Description_: 20W DC/DC railway converter regulated, 36-160V input, ±5V fixed output voltage, 2A each output, 3.0kVAC isolation, 1”x1.6”
pins: 1 +Vin, 2 -Vin, 3 Remote, 4 +Vout, 5 Com, 6 -Vout

## TEN20-11022WIRH
designator *  value TEN20-11022WIRH  Reference: U
20W DC/DC railway converter regulated, 36-160V input, ±12V fixed output voltage, 833mA each output, 3.0kVAC isolation, 1”x1.6”; ki_keywords: Traco isolated dc-dc 50155 50121-3-2 62368-1 dual; ki_fp_filters: Converter*DCDC*TRACO*TEN20*110xxWIRH*THT*; Footprint: Converter_DCDC:Converter_DCDC_TRACO_TEN20-110xxWIRH_THT; Datasheet: https://www.tracopower.com/products/ten20wirh.pdf; Description_: 20W DC/DC railway converter regulated, 36-160V input, ±12V fixed output voltage, 833mA each output, 3.0kVAC isolation, 1”x1.6”
pins: 1 +Vin, 2 -Vin, 3 Remote, 4 +Vout, 5 Com, 6 -Vout

## TEN20-11023WIRH
designator *  value TEN20-11023WIRH  Reference: U
20W DC/DC railway converter regulated, 36-160V input, ±15V fixed output voltage, 667mA each output, 3.0kVAC isolation, 1”x1.6”; ki_keywords: Traco isolated dc-dc 50155 50121-3-2 62368-1 dual; ki_fp_filters: Converter*DCDC*TRACO*TEN20*110xxWIRH*THT*; Footprint: Converter_DCDC:Converter_DCDC_TRACO_TEN20-110xxWIRH_THT; Datasheet: https://www.tracopower.com/products/ten20wirh.pdf; Description_: 20W DC/DC railway converter regulated, 36-160V input, ±15V fixed output voltage, 667mA each output, 3.0kVAC isolation, 1”x1.6”
pins: 1 +Vin, 2 -Vin, 3 Remote, 4 +Vout, 5 Com, 6 -Vout

## TEN40-11011WIRH
designator *  value TEN40-11011WIRH  Reference: U
40W DC/DC railway converter regulated, 36-160V input, 5.1V fixed output voltage, 8A output, 3.0kVAC isolation, 2”x1”; ki_keywords: Traco isolated dc-dc 50155 50121-3-2 62368-1 single; ki_fp_filters: Converter*DCDC*TRACO*TEN40*110xxWIRH*THT*; Footprint: Converter_DCDC:Converter_DCDC_TRACO_TEN40-110xxWIRH_THT; Datasheet: https://www.tracopower.com/products/ten40wirh.pdf; Description_: 40W DC/DC railway converter regulated, 36-160V input, 5.1V fixed output voltage, 8A output, 3.0kVAC isolation, 2”x1”
pins: 1 +Vin, 2 -Vin, 3 Remote, 4 +Vout, 5 -Vout, 6 Trim

## TEN40-11012WIRH
designator *  value TEN40-11012WIRH  Reference: U
40W DC/DC railway converter regulated, 36-160V input, 12V fixed output voltage, 3.33A output, 3.0kVAC isolation, 2”x1”; ki_keywords: Traco isolated dc-dc 50155 50121-3-2 62368-1 single; ki_fp_filters: Converter*DCDC*TRACO*TEN40*110xxWIRH*THT*; Footprint: Converter_DCDC:Converter_DCDC_TRACO_TEN40-110xxWIRH_THT; Datasheet: https://www.tracopower.com/products/ten40wirh.pdf; Description_: 40W DC/DC railway converter regulated, 36-160V input, 12V fixed output voltage, 3.33A output, 3.0kVAC isolation, 2”x1”
pins: 1 +Vin, 2 -Vin, 3 Remote, 4 +Vout, 5 -Vout, 6 Trim

## TEN40-11013WIRH
designator *  value TEN40-11013WIRH  Reference: U
40W DC/DC railway converter regulated, 36-160V input, 15V fixed output voltage, 2.666A output, 3.0kVAC isolation, 2”x1”; ki_keywords: Traco isolated dc-dc 50155 50121-3-2 62368-1 single; ki_fp_filters: Converter*DCDC*TRACO*TEN40*110xxWIRH*THT*; Footprint: Converter_DCDC:Converter_DCDC_TRACO_TEN40-110xxWIRH_THT; Datasheet: https://www.tracopower.com/products/ten40wirh.pdf; Description_: 40W DC/DC railway converter regulated, 36-160V input, 15V fixed output voltage, 2.666A output, 3.0kVAC isolation, 2”x1”
pins: 1 +Vin, 2 -Vin, 3 Remote, 4 +Vout, 5 -Vout, 6 Trim

## TEN40-11015WIRH
designator *  value TEN40-11015WIRH  Reference: U
40W DC/DC railway converter regulated, 36-160V input, 24V fixed output voltage, 1.666A output, 3.0kVAC isolation, 2”x1”; ki_keywords: Traco isolated dc-dc 50155 50121-3-2 62368-1 single; ki_fp_filters: Converter*DCDC*TRACO*TEN40*110xxWIRH*THT*; Footprint: Converter_DCDC:Converter_DCDC_TRACO_TEN40-110xxWIRH_THT; Datasheet: https://www.tracopower.com/products/ten40wirh.pdf; Description_: 40W DC/DC railway converter regulated, 36-160V input, 24V fixed output voltage, 1.666A output, 3.0kVAC isolation, 2”x1”
pins: 1 +Vin, 2 -Vin, 3 Remote, 4 +Vout, 5 -Vout, 6 Trim

## TEN40-11022WIRH
designator *  value TEN40-11022WIRH  Reference: U
40W DC/DC railway converter regulated, 36-160V input, ±12V fixed output voltage, 1.666A each output, 3.0kVAC isolation, 2”x1”; ki_keywords: Traco isolated dc-dc 50155 50121-3-2 62368-1 dual; ki_fp_filters: Converter*DCDC*TRACO*TEN40*110xxWIRH*THT*; Footprint: Converter_DCDC:Converter_DCDC_TRACO_TEN40-110xxWIRH_THT; Datasheet: https://www.tracopower.com/products/ten40wirh.pdf; Description_: 40W DC/DC railway converter regulated, 36-160V input, ±12V fixed output voltage, 1.666A each output, 3.0kVAC isolation, 2”x1”
pins: 1 +Vin, 2 -Vin, 3 Remote, 4 +Vout, 5 Com, 6 -Vout

## TEN40-11023WIRH
designator *  value TEN40-11023WIRH  Reference: U
40W DC/DC railway converter regulated, 36-160V input, ±15V fixed output voltage, 1.333A each output, 3.0kVAC isolation, 2”x1”; ki_keywords: Traco isolated dc-dc 50155 50121-3-2 62368-1 dual; ki_fp_filters: Converter*DCDC*TRACO*TEN40*110xxWIRH*THT*; Footprint: Converter_DCDC:Converter_DCDC_TRACO_TEN40-110xxWIRH_THT; Datasheet: https://www.tracopower.com/products/ten40wirh.pdf; Description_: 40W DC/DC railway converter regulated, 36-160V input, ±15V fixed output voltage, 1.333A each output, 3.0kVAC isolation, 2”x1”
pins: 1 +Vin, 2 -Vin, 3 Remote, 4 +Vout, 5 Com, 6 -Vout

## TES1-0510
designator *  value TES1-0510  Reference: U
1W DC/DC converter unregulated, 4.5-5.5V input, 3.3V fixed output voltage, 300mA output, 1.5kVDC isolation, SMD-8; ki_keywords: Traco isolated dc-dc not-regulated non-regulated single; ki_fp_filters: Converter*DCDC*TRACO*TES1*051x*121x*241x*Single*SMD*; Footprint: Converter_DCDC:Converter_DCDC_TRACO_TES1-051x_121x_241x_Single_SMD; Datasheet: https://www.tracopower.com/products/tes1.pdf; Description_: 1W DC/DC converter unregulated, 4.5-5.5V input, 3.3V fixed output voltage, 300mA output, 1.5kVDC isolation, SMD-8
pins: 1 -Vin, 2 +Vin, 4 -Vout, 5 +Vout, 8 NTC

## TES1-0511
designator *  value TES1-0511  Reference: U
1W DC/DC converter unregulated, 4.5-5.5V input, 5V fixed output voltage, 200mA output, 1.5kVDC isolation, SMD-8; ki_keywords: Traco isolated dc-dc not-regulated non-regulated single; ki_fp_filters: Converter*DCDC*TRACO*TES1*051x*121x*241x*Single*SMD*; Footprint: Converter_DCDC:Converter_DCDC_TRACO_TES1-051x_121x_241x_Single_SMD; Datasheet: https://www.tracopower.com/products/tes1.pdf; Description_: 1W DC/DC converter unregulated, 4.5-5.5V input, 5V fixed output voltage, 200mA output, 1.5kVDC isolation, SMD-8
pins: 1 -Vin, 2 +Vin, 4 -Vout, 5 +Vout, 8 NTC

## TES1-0512
designator *  value TES1-0512  Reference: U
1W DC/DC converter unregulated, 4.5-5.5V input, 12V fixed output voltage, 84mA output, 1.5kVDC isolation, SMD-8; ki_keywords: Traco isolated dc-dc not-regulated non-regulated single; ki_fp_filters: Converter*DCDC*TRACO*TES1*051x*121x*241x*Single*SMD*; Footprint: Converter_DCDC:Converter_DCDC_TRACO_TES1-051x_121x_241x_Single_SMD; Datasheet: https://www.tracopower.com/products/tes1.pdf; Description_: 1W DC/DC converter unregulated, 4.5-5.5V input, 12V fixed output voltage, 84mA output, 1.5kVDC isolation, SMD-8
pins: 1 -Vin, 2 +Vin, 4 -Vout, 5 +Vout, 8 NTC

## TES1-0513
designator *  value TES1-0513  Reference: U
1W DC/DC converter unregulated, 4.5-5.5V input, 15V fixed output voltage, 67mA output, 1.5kVDC isolation, SMD-8; ki_keywords: Traco isolated dc-dc not-regulated non-regulated single; ki_fp_filters: Converter*DCDC*TRACO*TES1*051x*121x*241x*Single*SMD*; Footprint: Converter_DCDC:Converter_DCDC_TRACO_TES1-051x_121x_241x_Single_SMD; Datasheet: https://www.tracopower.com/products/tes1.pdf; Description_: 1W DC/DC converter unregulated, 4.5-5.5V input, 15V fixed output voltage, 67mA output, 1.5kVDC isolation, SMD-8
pins: 1 -Vin, 2 +Vin, 4 -Vout, 5 +Vout, 8 NTC

## TES1-0519
designator *  value TES1-0519  Reference: U
1W DC/DC converter unregulated, 4.5-5.5V input, 9V fixed output voltage, 110mA output, 1.5kVDC isolation, SMD-8; ki_keywords: Traco isolated isolation dc-dc DC/DC converter not-regulated non-regulated single 1W; ki_fp_filters: Converter*DCDC*TRACO*TES1*051x*121x*241x*Single*SMD*; Footprint: Converter_DCDC:Converter_DCDC_TRACO_TES1-051x_121x_241x_Single_SMD; Datasheet: https://www.tracopower.com/products/tes1.pdf; Description_: 1W DC/DC converter unregulated, 4.5-5.5V input, 9V fixed output voltage, 110mA output, 1.5kVDC isolation, SMD-8
pins: 1 -Vin, 2 +Vin, 4 -Vout, 5 +Vout, 8 NTC

## TES1-0521
designator *  value TES1-0521  Reference: U
1W DC/DC converter unregulated, 4.5-5.5V input, ±5V fixed output voltage, 100mA each output, 1.5kVDC isolation, SMD-10; ki_keywords: Traco isolated dc-dc not-regulated non-regulated dual; ki_fp_filters: Converter*DCDC*TRACO*TES1*052x*122x*242x*Dual*SMD*; Footprint: Converter_DCDC:Converter_DCDC_TRACO_TES1-052x_122x_242x_Dual_SMD; Datasheet: https://www.tracopower.com/products/tes1.pdf; Description_: 1W DC/DC converter unregulated, 4.5-5.5V input, ±5V fixed output voltage, 100mA each output, 1.5kVDC isolation, SMD-10
pins: 1 -Vin, 2 +Vin, 4 Com, 5 -Vout, 7 +Vout, 10 NTC

## TES1-0522
designator *  value TES1-0522  Reference: U
1W DC/DC converter unregulated, 4.5-5.5V input, ±12V fixed output voltage, 42mA each output, 1.5kVDC isolation, SMD-10; ki_keywords: Traco isolated dc-dc not-regulated non-regulated dual; ki_fp_filters: Converter*DCDC*TRACO*TES1*052x*122x*242x*Dual*SMD*; Footprint: Converter_DCDC:Converter_DCDC_TRACO_TES1-052x_122x_242x_Dual_SMD; Datasheet: https://www.tracopower.com/products/tes1.pdf; Description_: 1W DC/DC converter unregulated, 4.5-5.5V input, ±12V fixed output voltage, 42mA each output, 1.5kVDC isolation, SMD-10
pins: 1 -Vin, 2 +Vin, 4 Com, 5 -Vout, 7 +Vout, 10 NTC

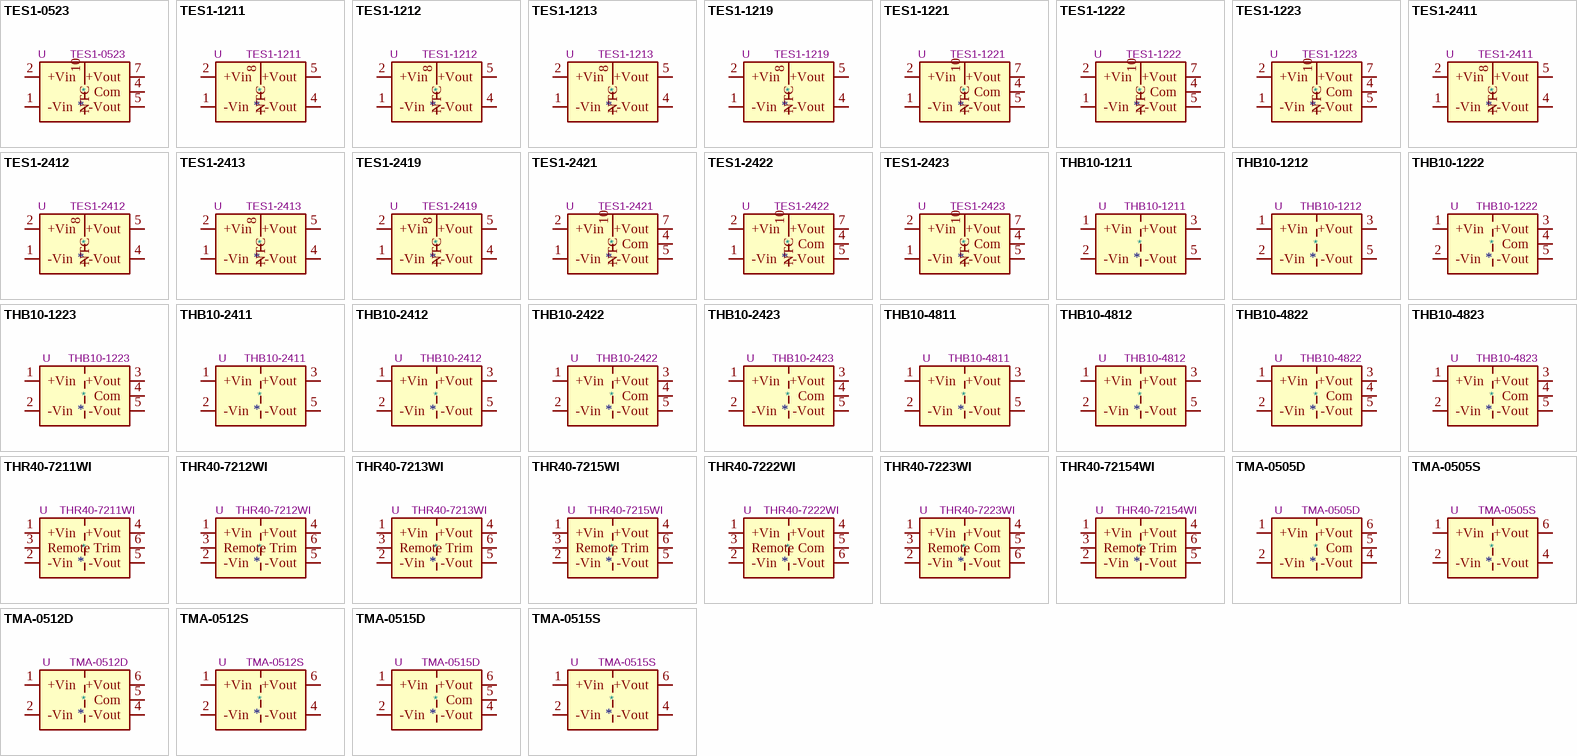
[diagram p17: symbols TES1-0523 to TMA-0515S]

## TES1-0523
designator *  value TES1-0523  Reference: U
1W DC/DC converter unregulated, 4.5-5.5V input, ±15V fixed output voltage, 33mA each output, 1.5kVDC isolation, SMD-10; ki_keywords: Traco isolated dc-dc not-regulated non-regulated dual; ki_fp_filters: Converter*DCDC*TRACO*TES1*052x*122x*242x*Dual*SMD*; Footprint: Converter_DCDC:Converter_DCDC_TRACO_TES1-052x_122x_242x_Dual_SMD; Datasheet: https://www.tracopower.com/products/tes1.pdf; Description_: 1W DC/DC converter unregulated, 4.5-5.5V input, ±15V fixed output voltage, 33mA each output, 1.5kVDC isolation, SMD-10
pins: 1 -Vin, 2 +Vin, 4 Com, 5 -Vout, 7 +Vout, 10 NTC

## TES1-1211
designator *  value TES1-1211  Reference: U
1W DC/DC converter unregulated, 10.8-13.2V input, 5V fixed output voltage, 200mA output, 1.5kVDC isolation, SMD-8; ki_keywords: Traco isolated dc-dc not-regulated non-regulated single; ki_fp_filters: Converter*DCDC*TRACO*TES1*051x*121x*241x*Single*SMD*; Footprint: Converter_DCDC:Converter_DCDC_TRACO_TES1-051x_121x_241x_Single_SMD; Datasheet: https://www.tracopower.com/products/tes1.pdf; Description_: 1W DC/DC converter unregulated, 10.8-13.2V input, 5V fixed output voltage, 200mA output, 1.5kVDC isolation, SMD-8
pins: 1 -Vin, 2 +Vin, 4 -Vout, 5 +Vout, 8 NTC

## TES1-1212
designator *  value TES1-1212  Reference: U
1W DC/DC converter unregulated, 10.8-13.2V input, 12V fixed output voltage, 84mA output, 1.5kVDC isolation, SMD-8; ki_keywords: Traco isolated dc-dc not-regulated non-regulated single; ki_fp_filters: Converter*DCDC*TRACO*TES1*051x*121x*241x*Single*SMD*; Footprint: Converter_DCDC:Converter_DCDC_TRACO_TES1-051x_121x_241x_Single_SMD; Datasheet: https://www.tracopower.com/products/tes1.pdf; Description_: 1W DC/DC converter unregulated, 10.8-13.2V input, 12V fixed output voltage, 84mA output, 1.5kVDC isolation, SMD-8
pins: 1 -Vin, 2 +Vin, 4 -Vout, 5 +Vout, 8 NTC

## TES1-1213
designator *  value TES1-1213  Reference: U
1W DC/DC converter unregulated, 10.8-13.2V input, 15V fixed output voltage, 67mA output, 1.5kVDC isolation, SMD-8; ki_keywords: Traco isolated dc-dc not-regulated non-regulated single; ki_fp_filters: Converter*DCDC*TRACO*TES1*051x*121x*241x*Single*SMD*; Footprint: Converter_DCDC:Converter_DCDC_TRACO_TES1-051x_121x_241x_Single_SMD; Datasheet: https://www.tracopower.com/products/tes1.pdf; Description_: 1W DC/DC converter unregulated, 10.8-13.2V input, 15V fixed output voltage, 67mA output, 1.5kVDC isolation, SMD-8
pins: 1 -Vin, 2 +Vin, 4 -Vout, 5 +Vout, 8 NTC

## TES1-1219
designator *  value TES1-1219  Reference: U
1W DC/DC converter unregulated, 10.8-13.2V input, 9V fixed output voltage, 110mA output, 1.5kVDC isolation, SMD-8; ki_keywords: Traco isolated dc-dc not-regulated non-regulated single; ki_fp_filters: Converter*DCDC*TRACO*TES1*051x*121x*241x*Single*SMD*; Footprint: Converter_DCDC:Converter_DCDC_TRACO_TES1-051x_121x_241x_Single_SMD; Datasheet: https://www.tracopower.com/products/tes1.pdf; Description_: 1W DC/DC converter unregulated, 10.8-13.2V input, 9V fixed output voltage, 110mA output, 1.5kVDC isolation, SMD-8
pins: 1 -Vin, 2 +Vin, 4 -Vout, 5 +Vout, 8 NTC

## TES1-1221
designator *  value TES1-1221  Reference: U
1W DC/DC converter unregulated, 10.8-13.2V input, ±5V fixed output voltage, 100mA each output, 1.5kVDC isolation, SMD-10; ki_keywords: Traco isolated dc-dc not-regulated non-regulated dual; ki_fp_filters: Converter*DCDC*TRACO*TES1*052x*122x*242x*Dual*SMD*; Footprint: Converter_DCDC:Converter_DCDC_TRACO_TES1-052x_122x_242x_Dual_SMD; Datasheet: https://www.tracopower.com/products/tes1.pdf; Description_: 1W DC/DC converter unregulated, 10.8-13.2V input, ±5V fixed output voltage, 100mA each output, 1.5kVDC isolation, SMD-10
pins: 1 -Vin, 2 +Vin, 4 Com, 5 -Vout, 7 +Vout, 10 NTC

## TES1-1222
designator *  value TES1-1222  Reference: U
1W DC/DC converter unregulated, 10.8-13.2V input, ±12V fixed output voltage, 42mA each output, 1.5kVDC isolation, SMD-10; ki_keywords: Traco isolated dc-dc not-regulated non-regulated dual; ki_fp_filters: Converter*DCDC*TRACO*TES1*052x*122x*242x*Dual*SMD*; Footprint: Converter_DCDC:Converter_DCDC_TRACO_TES1-052x_122x_242x_Dual_SMD; Datasheet: https://www.tracopower.com/products/tes1.pdf; Description_: 1W DC/DC converter unregulated, 10.8-13.2V input, ±12V fixed output voltage, 42mA each output, 1.5kVDC isolation, SMD-10
pins: 1 -Vin, 2 +Vin, 4 Com, 5 -Vout, 7 +Vout, 10 NTC

## TES1-1223
designator *  value TES1-1223  Reference: U
1W DC/DC converter unregulated, 10.8-13.2V input, ±15V fixed output voltage, 33mA each output, 1.5kVDC isolation, SMD-10; ki_keywords: Traco isolated dc-dc not-regulated non-regulated dual; ki_fp_filters: Converter*DCDC*TRACO*TES1*052x*122x*242x*Dual*SMD*; Footprint: Converter_DCDC:Converter_DCDC_TRACO_TES1-052x_122x_242x_Dual_SMD; Datasheet: https://www.tracopower.com/products/tes1.pdf; Description_: 1W DC/DC converter unregulated, 10.8-13.2V input, ±15V fixed output voltage, 33mA each output, 1.5kVDC isolation, SMD-10
pins: 1 -Vin, 2 +Vin, 4 Com, 5 -Vout, 7 +Vout, 10 NTC

## TES1-2411
designator *  value TES1-2411  Reference: U
1W DC/DC converter unregulated, 21.6-26.4V input, 5V fixed output voltage, 200mA output, 1.5kVDC isolation, SMD-8; ki_keywords: Traco isolated dc-dc not-regulated non-regulated single; ki_fp_filters: Converter*DCDC*TRACO*TES1*051x*121x*241x*Single*SMD*; Footprint: Converter_DCDC:Converter_DCDC_TRACO_TES1-051x_121x_241x_Single_SMD; Datasheet: https://www.tracopower.com/products/tes1.pdf; Description_: 1W DC/DC converter unregulated, 21.6-26.4V input, 5V fixed output voltage, 200mA output, 1.5kVDC isolation, SMD-8
pins: 1 -Vin, 2 +Vin, 4 -Vout, 5 +Vout, 8 NTC

## TES1-2412
designator *  value TES1-2412  Reference: U
1W DC/DC converter unregulated, 21.6-26.4V input, 12V fixed output voltage, 84mA output, 1.5kVDC isolation, SMD-8; ki_keywords: Traco isolated dc-dc not-regulated non-regulated single; ki_fp_filters: Converter*DCDC*TRACO*TES1*051x*121x*241x*Single*SMD*; Footprint: Converter_DCDC:Converter_DCDC_TRACO_TES1-051x_121x_241x_Single_SMD; Datasheet: https://www.tracopower.com/products/tes1.pdf; Description_: 1W DC/DC converter unregulated, 21.6-26.4V input, 12V fixed output voltage, 84mA output, 1.5kVDC isolation, SMD-8
pins: 1 -Vin, 2 +Vin, 4 -Vout, 5 +Vout, 8 NTC